# Altium footprint library HT3.96.PcbLib: 56 footprints (part 2 of 4)
Each footprint in its own frame and in the unit in brackets; x right, y up, seen from the top. Pads: shape width x height; smd on the part's side, far side on the other; paste and mask are expansions set on the pad; w line width, h text height; cw(c..) or ccw(c..) is an arc to the next point about the centre after c.
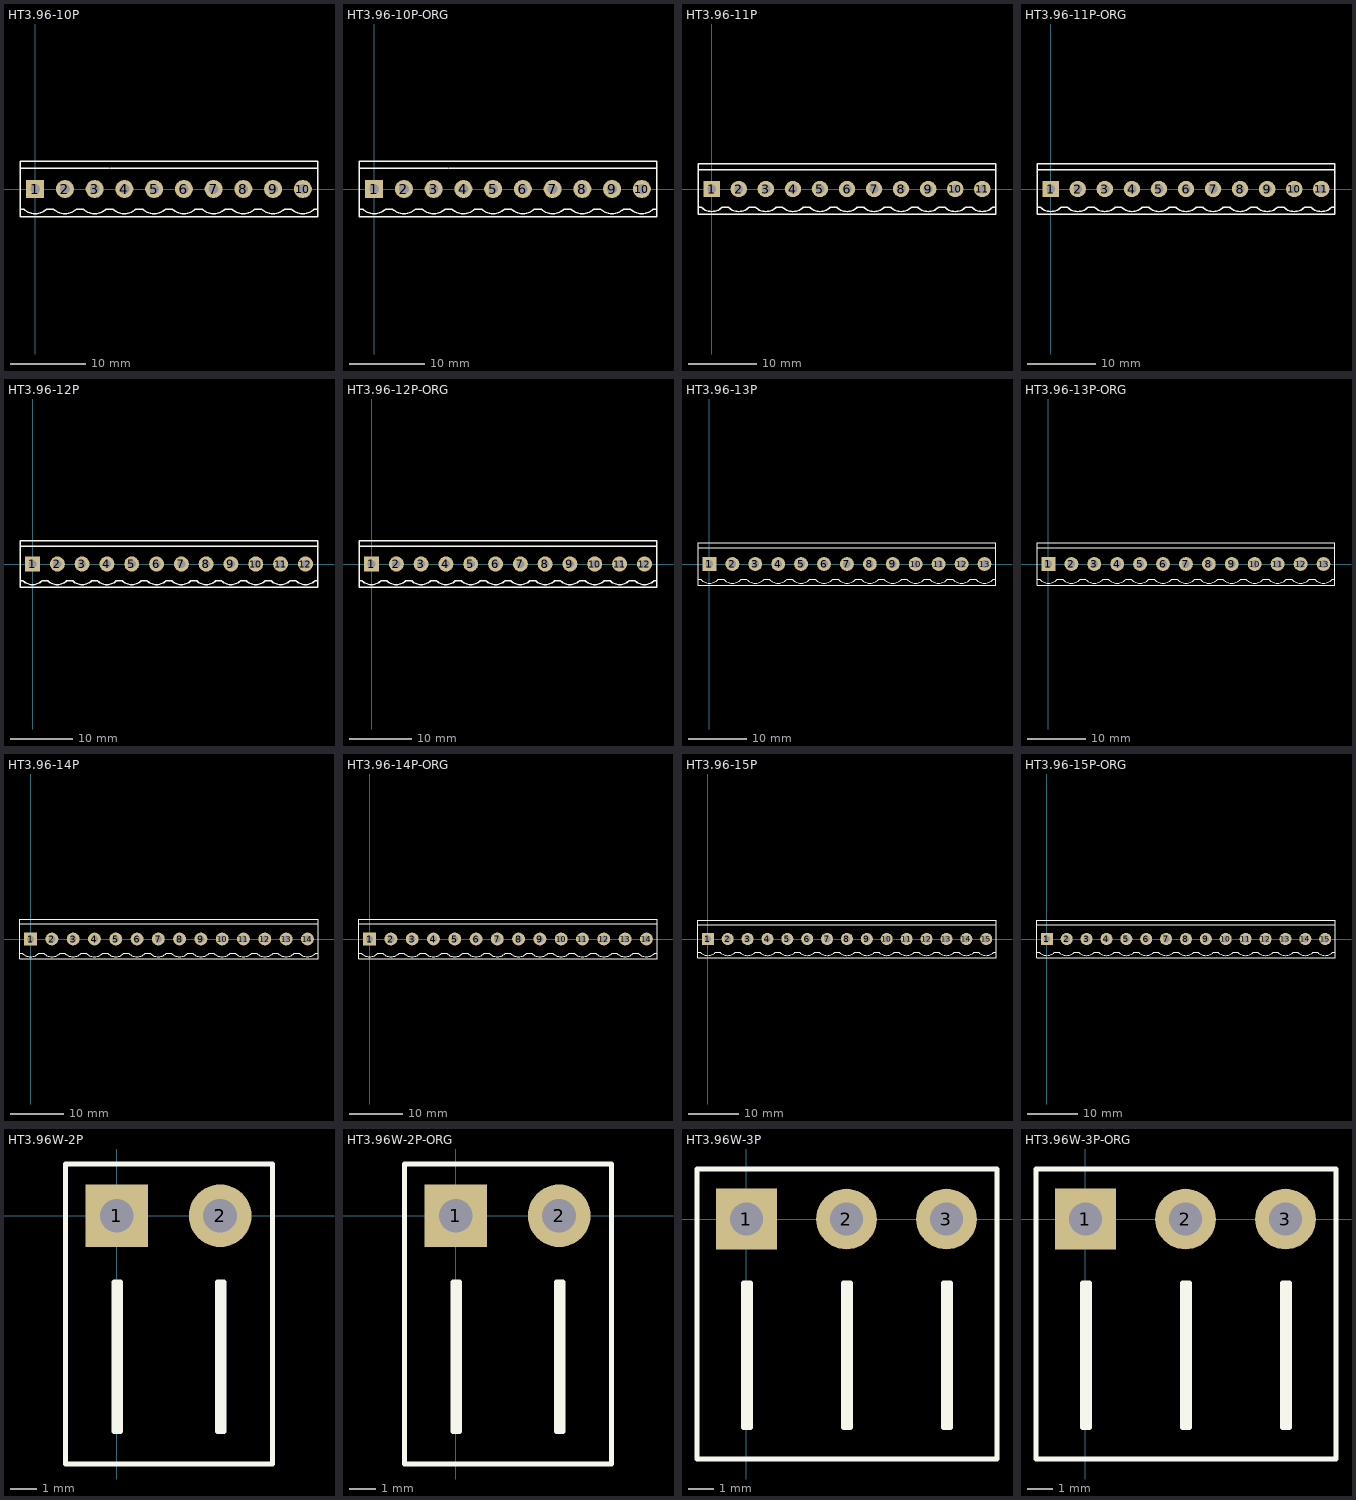
[diagram p1: the footprints below, top view; thin cyan lines are the x and y axes]

## HT3.96-10P [mm]
pads (10):
  rect 2.4x2.4 hole 1.3: 1(0,0)
  round 2.4 hole 1.3: 2(3.96,0) 3(7.92,0) 4(11.88,0) 5(15.84,0) 6(19.8,0) 7(23.76,0) 8(27.72,0) 9(31.68,0) 10(35.64,0)
Top Overlay:
  lines w0.203: -1.98,-2.667 -1.524,-2.667 ccw(c0,-1.143) 1.524,-2.667 1.98,-2.667 2.436,-2.667 ccw(c3.96,-1.143) 5.484,-2.667 5.94,-2.667 6.396,-2.667 ccw(c7.92,-1.143) 9.444,-2.667 9.9,-2.667 10.356,-2.667 ccw(c11.88,-1.143) 13.404,-2.667 13.86,-2.667 14.316,-2.667 ccw(c15.84,-1.143) 17.364,-2.667 17.82,-2.667 18.276,-2.667 ccw(c19.8,-1.143) 21.324,-2.667 21.78,-2.667 22.236,-2.667 ccw(c23.76,-1.143) 25.284,-2.667 25.74,-2.667 26.196,-2.667 ccw(c27.72,-1.143) 29.244,-2.667 29.7,-2.667 30.156,-2.667 ccw(c31.68,-1.143) 33.204,-2.667 33.66,-2.667 34.116,-2.667 ccw(c35.64,-1.143) 37.164,-2.667 37.62,-2.667 ; -1.98,2.794 1.905,2.794 ; 1.98,2.794 5.865,2.794 ; 5.94,2.794 9.825,2.794 ; 9.9,2.794 13.785,2.794 ; 13.86,2.794 17.745,2.794 ; 17.82,2.794 21.705,2.794 ; 21.78,2.794 25.665,2.794 ; 25.74,2.794 29.625,2.794 ; 29.7,2.794 33.585,2.794 ; 33.66,2.794 37.545,2.794 ; -1.98,-3.7 1.98,-3.7 5.94,-3.7 9.9,-3.7 13.86,-3.7 17.82,-3.7 21.78,-3.7 25.74,-3.7 29.7,-3.7 33.66,-3.7 37.62,-3.7 37.62,3.7 33.66,3.7 29.7,3.7 25.74,3.7 21.78,3.7 17.82,3.7 13.86,3.7 9.9,3.7 5.94,3.7 1.98,3.7 -1.98,3.7 -1.98,-3.7
3D body "HT3.96-LI.STEP": height 10.05, standoff -2.95, extent 33.556,-3.7 37.556,3.7
3D body "HT3.96-LI.STEP": height 10.05, standoff -2.95, extent 25.636,-3.7 29.636,3.7
3D body "HT3.96-LI.STEP": height 10.05, standoff -2.95, extent 21.676,-3.7 25.676,3.7
3D body "HT3.96-LI.STEP": height 10.05, standoff -2.95, extent 29.596,-3.7 33.596,3.7
3D body "HT3.96-LI.STEP": height 10.05, standoff -2.95, extent 13.756,-3.7 17.756,3.7
3D body "HT3.96-LI.STEP": height 10.05, standoff -2.95, extent 9.796,-3.7 13.796,3.7
3D body "HT3.96-LI.STEP": height 10.05, standoff -2.95, extent 17.716,-3.7 21.716,3.7
3D body "HT3.96-LI.STEP": height 10.05, standoff -2.95, extent 1.876,-3.7 5.876,3.7
3D body "HT3.96-LI.STEP": height 10.05, standoff -2.95, extent -2.084,-3.7 1.916,3.7
3D body "HT3.96-LI.STEP": height 10.05, standoff -2.95, extent 5.836,-3.7 9.836,3.7

## HT3.96-10P-ORG [mm]
pads (10):
  rect 2.4x2.4 hole 1.3: 1(0,0)
  round 2.4 hole 1.3: 2(3.96,0) 3(7.92,0) 4(11.88,0) 5(15.84,0) 6(19.8,0) 7(23.76,0) 8(27.72,0) 9(31.68,0) 10(35.64,0)
Top Overlay:
  lines w0.203: -1.98,-2.667 -1.524,-2.667 ccw(c0,-1.143) 1.524,-2.667 1.98,-2.667 2.436,-2.667 ccw(c3.96,-1.143) 5.484,-2.667 5.94,-2.667 6.396,-2.667 ccw(c7.92,-1.143) 9.444,-2.667 9.9,-2.667 10.356,-2.667 ccw(c11.88,-1.143) 13.404,-2.667 13.86,-2.667 14.316,-2.667 ccw(c15.84,-1.143) 17.364,-2.667 17.82,-2.667 18.276,-2.667 ccw(c19.8,-1.143) 21.324,-2.667 21.78,-2.667 22.236,-2.667 ccw(c23.76,-1.143) 25.284,-2.667 25.74,-2.667 26.196,-2.667 ccw(c27.72,-1.143) 29.244,-2.667 29.7,-2.667 30.156,-2.667 ccw(c31.68,-1.143) 33.204,-2.667 33.66,-2.667 34.116,-2.667 ccw(c35.64,-1.143) 37.164,-2.667 37.62,-2.667 ; -1.98,2.794 1.905,2.794 ; 1.98,2.794 5.865,2.794 ; 5.94,2.794 9.825,2.794 ; 9.9,2.794 13.785,2.794 ; 13.86,2.794 17.745,2.794 ; 17.82,2.794 21.705,2.794 ; 21.78,2.794 25.665,2.794 ; 25.74,2.794 29.625,2.794 ; 29.7,2.794 33.585,2.794 ; 33.66,2.794 37.545,2.794 ; -1.98,-3.7 1.98,-3.7 5.94,-3.7 9.9,-3.7 13.86,-3.7 17.82,-3.7 21.78,-3.7 25.74,-3.7 29.7,-3.7 33.66,-3.7 37.62,-3.7 37.62,3.7 33.66,3.7 29.7,3.7 25.74,3.7 21.78,3.7 17.82,3.7 13.86,3.7 9.9,3.7 5.94,3.7 1.98,3.7 -1.98,3.7 -1.98,-3.7
3D body "HT3.96-LI-ORG.STEP": height 10.05, standoff -2.95, extent 33.62,-3.7 37.62,3.7
3D body "HT3.96-LI-ORG.STEP": height 10.05, standoff -2.95, extent 25.7,-3.7 29.7,3.7
3D body "HT3.96-LI-ORG.STEP": height 10.05, standoff -2.95, extent 21.74,-3.7 25.74,3.7
3D body "HT3.96-LI-ORG.STEP": height 10.05, standoff -2.95, extent 29.66,-3.7 33.66,3.7
3D body "HT3.96-LI-ORG.STEP": height 10.05, standoff -2.95, extent 13.82,-3.7 17.82,3.7
3D body "HT3.96-LI-ORG.STEP": height 10.05, standoff -2.95, extent 9.86,-3.7 13.86,3.7
3D body "HT3.96-LI-ORG.STEP": height 10.05, standoff -2.95, extent 17.78,-3.7 21.78,3.7
3D body "HT3.96-LI-ORG.STEP": height 10.05, standoff -2.95, extent 1.94,-3.7 5.94,3.7
3D body "HT3.96-LI-ORG.STEP": height 10.05, standoff -2.95, extent -2.02,-3.7 1.98,3.7
3D body "HT3.96-LI-ORG.STEP": height 10.05, standoff -2.95, extent 5.9,-3.7 9.9,3.7

## HT3.96-11P [mm]
pads (11):
  rect 2.4x2.4 hole 1.3: 1(0,0)
  round 2.4 hole 1.3: 2(3.96,0) 3(7.92,0) 4(11.88,0) 5(15.84,0) 6(19.8,0) 7(23.76,0) 8(27.72,0) 9(31.68,0) 10(35.64,0) 11(39.6,0)
Top Overlay:
  lines w0.203: -1.98,-2.667 -1.524,-2.667 ccw(c0,-1.143) 1.524,-2.667 1.98,-2.667 2.436,-2.667 ccw(c3.96,-1.143) 5.484,-2.667 5.94,-2.667 6.396,-2.667 ccw(c7.92,-1.143) 9.444,-2.667 9.9,-2.667 10.356,-2.667 ccw(c11.88,-1.143) 13.404,-2.667 13.86,-2.667 14.316,-2.667 ccw(c15.84,-1.143) 17.364,-2.667 17.82,-2.667 18.276,-2.667 ccw(c19.8,-1.143) 21.324,-2.667 21.78,-2.667 22.236,-2.667 ccw(c23.76,-1.143) 25.284,-2.667 25.74,-2.667 26.196,-2.667 ccw(c27.72,-1.143) 29.244,-2.667 29.7,-2.667 30.156,-2.667 ccw(c31.68,-1.143) 33.204,-2.667 33.66,-2.667 34.116,-2.667 ccw(c35.64,-1.143) 37.164,-2.667 ; -1.98,2.794 1.905,2.794 ; 1.98,2.794 5.865,2.794 ; 5.94,2.794 9.825,2.794 ; 9.9,2.794 13.785,2.794 ; 13.86,2.794 17.745,2.794 ; 17.82,2.794 21.705,2.794 ; 21.78,2.794 25.665,2.794 ; 25.74,2.794 29.625,2.794 ; 29.7,2.794 33.585,2.794 ; 33.66,2.794 37.545,2.794 ; 37.62,2.794 41.505,2.794 ; 41.58,-2.667 41.124,-2.667 cw(c39.6,-1.143) 38.076,-2.667 37.62,-2.667 ; 37.164,-2.667 37.62,-2.667 ; 37.164,-2.667 37.62,-2.667 ; -1.98,-3.7 -1.98,3.7 1.98,3.7 5.94,3.7 9.9,3.7 13.86,3.7 17.82,3.7 21.78,3.7 25.74,3.7 29.7,3.7 33.66,3.7 37.62,3.7 41.58,3.7 41.58,-3.7 37.62,-3.7 33.66,-3.7 29.7,-3.7 25.74,-3.7 21.78,-3.7 17.82,-3.7 13.86,-3.7 9.9,-3.7 5.94,-3.7 1.98,-3.7 -1.98,-3.7
3D body "HT3.96-LI.STEP": height 10.05, standoff -2.95, extent 37.516,-3.7 41.516,3.7
3D body "HT3.96-LI.STEP": height 10.05, standoff -2.95, extent 33.556,-3.7 37.556,3.7
3D body "HT3.96-LI.STEP": height 10.05, standoff -2.95, extent 25.636,-3.7 29.636,3.7
3D body "HT3.96-LI.STEP": height 10.05, standoff -2.95, extent 21.676,-3.7 25.676,3.7
3D body "HT3.96-LI.STEP": height 10.05, standoff -2.95, extent 29.596,-3.7 33.596,3.7
3D body "HT3.96-LI.STEP": height 10.05, standoff -2.95, extent 13.756,-3.7 17.756,3.7
3D body "HT3.96-LI.STEP": height 10.05, standoff -2.95, extent 9.796,-3.7 13.796,3.7
3D body "HT3.96-LI.STEP": height 10.05, standoff -2.95, extent 17.716,-3.7 21.716,3.7
3D body "HT3.96-LI.STEP": height 10.05, standoff -2.95, extent 1.876,-3.7 5.876,3.7
3D body "HT3.96-LI.STEP": height 10.05, standoff -2.95, extent -2.084,-3.7 1.916,3.7
3D body "HT3.96-LI.STEP": height 10.05, standoff -2.95, extent 5.836,-3.7 9.836,3.7

## HT3.96-11P-ORG [mm]
pads (11):
  rect 2.4x2.4 hole 1.3: 1(0,0)
  round 2.4 hole 1.3: 2(3.96,0) 3(7.92,0) 4(11.88,0) 5(15.84,0) 6(19.8,0) 7(23.76,0) 8(27.72,0) 9(31.68,0) 10(35.64,0) 11(39.6,0)
Top Overlay:
  lines w0.203: -1.98,-2.667 -1.524,-2.667 ccw(c0,-1.143) 1.524,-2.667 1.98,-2.667 2.436,-2.667 ccw(c3.96,-1.143) 5.484,-2.667 5.94,-2.667 6.396,-2.667 ccw(c7.92,-1.143) 9.444,-2.667 9.9,-2.667 10.356,-2.667 ccw(c11.88,-1.143) 13.404,-2.667 13.86,-2.667 14.316,-2.667 ccw(c15.84,-1.143) 17.364,-2.667 17.82,-2.667 18.276,-2.667 ccw(c19.8,-1.143) 21.324,-2.667 21.78,-2.667 22.236,-2.667 ccw(c23.76,-1.143) 25.284,-2.667 25.74,-2.667 26.196,-2.667 ccw(c27.72,-1.143) 29.244,-2.667 29.7,-2.667 30.156,-2.667 ccw(c31.68,-1.143) 33.204,-2.667 33.66,-2.667 34.116,-2.667 ccw(c35.64,-1.143) 37.164,-2.667 ; -1.98,2.794 1.905,2.794 ; 1.98,2.794 5.865,2.794 ; 5.94,2.794 9.825,2.794 ; 9.9,2.794 13.785,2.794 ; 13.86,2.794 17.745,2.794 ; 17.82,2.794 21.705,2.794 ; 21.78,2.794 25.665,2.794 ; 25.74,2.794 29.625,2.794 ; 29.7,2.794 33.585,2.794 ; 33.66,2.794 37.545,2.794 ; 37.62,2.794 41.505,2.794 ; 41.58,-2.667 41.124,-2.667 cw(c39.6,-1.143) 38.076,-2.667 37.62,-2.667 ; 37.164,-2.667 37.62,-2.667 ; 37.164,-2.667 37.62,-2.667 ; -1.98,-3.7 -1.98,3.7 1.98,3.7 5.94,3.7 9.9,3.7 13.86,3.7 17.82,3.7 21.78,3.7 25.74,3.7 29.7,3.7 33.66,3.7 37.62,3.7 41.58,3.7 41.58,-3.7 37.62,-3.7 33.66,-3.7 29.7,-3.7 25.74,-3.7 21.78,-3.7 17.82,-3.7 13.86,-3.7 9.9,-3.7 5.94,-3.7 1.98,-3.7 -1.98,-3.7
3D body "HT3.96-LI-ORG.STEP": height 10.05, standoff -2.95, extent 5.9,-3.7 9.9,3.7
3D body "HT3.96-LI-ORG.STEP": height 10.05, standoff -2.95, extent -2.02,-3.7 1.98,3.7
3D body "HT3.96-LI-ORG.STEP": height 10.05, standoff -2.95, extent 1.94,-3.7 5.94,3.7
3D body "HT3.96-LI-ORG.STEP": height 10.05, standoff -2.95, extent 17.78,-3.7 21.78,3.7
3D body "HT3.96-LI-ORG.STEP": height 10.05, standoff -2.95, extent 9.86,-3.7 13.86,3.7
3D body "HT3.96-LI-ORG.STEP": height 10.05, standoff -2.95, extent 13.82,-3.7 17.82,3.7
3D body "HT3.96-LI-ORG.STEP": height 10.05, standoff -2.95, extent 29.66,-3.7 33.66,3.7
3D body "HT3.96-LI-ORG.STEP": height 10.05, standoff -2.95, extent 21.74,-3.7 25.74,3.7
3D body "HT3.96-LI-ORG.STEP": height 10.05, standoff -2.95, extent 25.7,-3.7 29.7,3.7
3D body "HT3.96-LI-ORG.STEP": height 10.05, standoff -2.95, extent 33.62,-3.7 37.62,3.7
3D body "HT3.96-LI-ORG.STEP": height 10.05, standoff -2.95, extent 37.58,-3.7 41.58,3.7

## HT3.96-12P [mm]
pads (12):
  rect 2.4x2.4 hole 1.3: 1(0,0)
  round 2.4 hole 1.3: 2(3.96,0) 3(7.92,0) 4(11.88,0) 5(15.84,0) 6(19.8,0) 7(23.76,0) 8(27.72,0) 9(31.68,0) 10(35.64,0) 11(39.6,0) 12(43.58,0)
Top Overlay:
  lines w0.203: -1.98,-2.667 -1.524,-2.667 ccw(c0,-1.143) 1.524,-2.667 1.98,-2.667 2.436,-2.667 ccw(c3.96,-1.143) 5.484,-2.667 5.94,-2.667 6.396,-2.667 ccw(c7.92,-1.143) 9.444,-2.667 9.9,-2.667 10.356,-2.667 ccw(c11.88,-1.143) 13.404,-2.667 13.86,-2.667 14.316,-2.667 ccw(c15.84,-1.143) 17.364,-2.667 17.82,-2.667 18.276,-2.667 ccw(c19.8,-1.143) 21.324,-2.667 21.78,-2.667 22.236,-2.667 ccw(c23.76,-1.143) 25.284,-2.667 25.74,-2.667 26.196,-2.667 ccw(c27.72,-1.143) 29.244,-2.667 29.7,-2.667 30.156,-2.667 ccw(c31.68,-1.143) 33.204,-2.667 33.66,-2.667 34.116,-2.667 ccw(c35.64,-1.143) 37.164,-2.667 ; -1.98,2.794 1.905,2.794 ; 1.98,2.794 5.865,2.794 ; 5.94,2.794 9.825,2.794 ; 9.9,2.794 13.785,2.794 ; 13.86,2.794 17.745,2.794 ; 17.82,2.794 21.705,2.794 ; 21.78,2.794 25.665,2.794 ; 25.74,2.794 29.625,2.794 ; 29.7,2.794 33.585,2.794 ; 33.66,2.794 37.545,2.794 ; 37.62,2.794 41.505,2.794 ; 41.58,-3.7 37.62,-3.7 33.66,-3.7 29.7,-3.7 25.74,-3.7 21.78,-3.7 17.82,-3.7 13.86,-3.7 9.9,-3.7 5.94,-3.7 1.98,-3.7 -1.98,-3.7 -1.98,3.7 1.98,3.7 5.94,3.7 9.9,3.7 13.86,3.7 17.82,3.7 21.78,3.7 25.74,3.7 29.7,3.7 33.66,3.7 37.62,3.7 41.58,3.7 ; 41.58,-2.667 41.124,-2.667 cw(c39.6,-1.143) 38.076,-2.667 37.62,-2.667 ; 41.6,-3.7 45.56,-3.7 45.56,3.7 41.6,3.7 ; 41.6,2.794 45.485,2.794 ; 37.164,-2.667 37.62,-2.667 ; 37.164,-2.667 37.62,-2.667 ; 41.6,-2.667 41.144,-2.667 41.6,-2.667 ; 41.6,-2.667 42.056,-2.667 ccw(c43.58,-1.143) 45.104,-2.667 ; 45.104,-2.667 45.56,-2.667 ; 45.104,-2.667 45.56,-2.667 ; 45.104,-2.667 45.56,-2.667
3D body "HT3.96-LI.STEP": height 10.05, standoff -2.95, extent 37.516,-3.7 41.516,3.7
3D body "HT3.96-LI.STEP": height 10.05, standoff -2.95, extent 33.556,-3.7 37.556,3.7
3D body "HT3.96-LI.STEP": height 10.05, standoff -2.95, extent 41.476,-3.7 45.476,3.7
3D body "HT3.96-LI.STEP": height 10.05, standoff -2.95, extent 25.636,-3.7 29.636,3.7
3D body "HT3.96-LI.STEP": height 10.05, standoff -2.95, extent 21.676,-3.7 25.676,3.7
3D body "HT3.96-LI.STEP": height 10.05, standoff -2.95, extent 29.596,-3.7 33.596,3.7
3D body "HT3.96-LI.STEP": height 10.05, standoff -2.95, extent 13.756,-3.7 17.756,3.7
3D body "HT3.96-LI.STEP": height 10.05, standoff -2.95, extent 9.796,-3.7 13.796,3.7
3D body "HT3.96-LI.STEP": height 10.05, standoff -2.95, extent 17.716,-3.7 21.716,3.7
3D body "HT3.96-LI.STEP": height 10.05, standoff -2.95, extent 1.876,-3.7 5.876,3.7
3D body "HT3.96-LI.STEP": height 10.05, standoff -2.95, extent -2.084,-3.7 1.916,3.7
3D body "HT3.96-LI.STEP": height 10.05, standoff -2.95, extent 5.836,-3.7 9.836,3.7

## HT3.96-12P-ORG [mm]
pads (12):
  rect 2.4x2.4 hole 1.3: 1(0,0)
  round 2.4 hole 1.3: 2(3.96,0) 3(7.92,0) 4(11.88,0) 5(15.84,0) 6(19.8,0) 7(23.76,0) 8(27.72,0) 9(31.68,0) 10(35.64,0) 11(39.6,0) 12(43.58,0)
Top Overlay:
  lines w0.203: -1.98,-2.667 -1.524,-2.667 ccw(c0,-1.143) 1.524,-2.667 1.98,-2.667 2.436,-2.667 ccw(c3.96,-1.143) 5.484,-2.667 5.94,-2.667 6.396,-2.667 ccw(c7.92,-1.143) 9.444,-2.667 9.9,-2.667 10.356,-2.667 ccw(c11.88,-1.143) 13.404,-2.667 13.86,-2.667 14.316,-2.667 ccw(c15.84,-1.143) 17.364,-2.667 17.82,-2.667 18.276,-2.667 ccw(c19.8,-1.143) 21.324,-2.667 21.78,-2.667 22.236,-2.667 ccw(c23.76,-1.143) 25.284,-2.667 25.74,-2.667 26.196,-2.667 ccw(c27.72,-1.143) 29.244,-2.667 29.7,-2.667 30.156,-2.667 ccw(c31.68,-1.143) 33.204,-2.667 33.66,-2.667 34.116,-2.667 ccw(c35.64,-1.143) 37.164,-2.667 ; -1.98,2.794 1.905,2.794 ; 1.98,2.794 5.865,2.794 ; 5.94,2.794 9.825,2.794 ; 9.9,2.794 13.785,2.794 ; 13.86,2.794 17.745,2.794 ; 17.82,2.794 21.705,2.794 ; 21.78,2.794 25.665,2.794 ; 25.74,2.794 29.625,2.794 ; 29.7,2.794 33.585,2.794 ; 33.66,2.794 37.545,2.794 ; 37.62,2.794 41.505,2.794 ; 41.58,-3.7 37.62,-3.7 33.66,-3.7 29.7,-3.7 25.74,-3.7 21.78,-3.7 17.82,-3.7 13.86,-3.7 9.9,-3.7 5.94,-3.7 1.98,-3.7 -1.98,-3.7 -1.98,3.7 1.98,3.7 5.94,3.7 9.9,3.7 13.86,3.7 17.82,3.7 21.78,3.7 25.74,3.7 29.7,3.7 33.66,3.7 37.62,3.7 41.58,3.7 ; 41.58,-2.667 41.124,-2.667 cw(c39.6,-1.143) 38.076,-2.667 37.62,-2.667 ; 41.6,-3.7 45.56,-3.7 45.56,3.7 41.6,3.7 ; 41.6,2.794 45.485,2.794 ; 37.164,-2.667 37.62,-2.667 ; 37.164,-2.667 37.62,-2.667 ; 41.6,-2.667 41.144,-2.667 41.6,-2.667 ; 41.6,-2.667 42.056,-2.667 ccw(c43.58,-1.143) 45.104,-2.667 ; 45.104,-2.667 45.56,-2.667 ; 45.104,-2.667 45.56,-2.667 ; 45.104,-2.667 45.56,-2.667
3D body "HT3.96-LI-ORG.STEP": height 10.05, standoff -2.95, extent 5.9,-3.7 9.9,3.7
3D body "HT3.96-LI-ORG.STEP": height 10.05, standoff -2.95, extent -2.02,-3.7 1.98,3.7
3D body "HT3.96-LI-ORG.STEP": height 10.05, standoff -2.95, extent 1.94,-3.7 5.94,3.7
3D body "HT3.96-LI-ORG.STEP": height 10.05, standoff -2.95, extent 17.78,-3.7 21.78,3.7
3D body "HT3.96-LI-ORG.STEP": height 10.05, standoff -2.95, extent 9.86,-3.7 13.86,3.7
3D body "HT3.96-LI-ORG.STEP": height 10.05, standoff -2.95, extent 13.82,-3.7 17.82,3.7
3D body "HT3.96-LI-ORG.STEP": height 10.05, standoff -2.95, extent 29.66,-3.7 33.66,3.7
3D body "HT3.96-LI-ORG.STEP": height 10.05, standoff -2.95, extent 21.74,-3.7 25.74,3.7
3D body "HT3.96-LI-ORG.STEP": height 10.05, standoff -2.95, extent 25.7,-3.7 29.7,3.7
3D body "HT3.96-LI-ORG.STEP": height 10.05, standoff -2.95, extent 41.54,-3.7 45.54,3.7
3D body "HT3.96-LI-ORG.STEP": height 10.05, standoff -2.95, extent 33.62,-3.7 37.62,3.7
3D body "HT3.96-LI-ORG.STEP": height 10.05, standoff -2.95, extent 37.58,-3.7 41.58,3.7

## HT3.96-13P [mm]
pads (13):
  rect 2.4x2.4 hole 1.3: 1(0,0)
  round 2.4 hole 1.3: 2(3.96,0) 3(7.92,0) 4(11.88,0) 5(15.84,0) 6(19.8,0) 7(23.76,0) 8(27.72,0) 9(31.68,0) 10(35.64,0) 11(39.6,0) 12(43.58,0) 13(47.54,0)
Top Overlay:
  lines w0.203: -1.98,-2.667 -1.524,-2.667 ccw(c0,-1.143) 1.524,-2.667 1.98,-2.667 2.436,-2.667 ccw(c3.96,-1.143) 5.484,-2.667 5.94,-2.667 6.396,-2.667 ccw(c7.92,-1.143) 9.444,-2.667 9.9,-2.667 10.356,-2.667 ccw(c11.88,-1.143) 13.404,-2.667 13.86,-2.667 14.316,-2.667 ccw(c15.84,-1.143) 17.364,-2.667 17.82,-2.667 18.276,-2.667 ccw(c19.8,-1.143) 21.324,-2.667 21.78,-2.667 22.236,-2.667 ccw(c23.76,-1.143) 25.284,-2.667 25.74,-2.667 26.196,-2.667 ccw(c27.72,-1.143) 29.244,-2.667 29.7,-2.667 30.156,-2.667 ccw(c31.68,-1.143) 33.204,-2.667 33.66,-2.667 34.116,-2.667 ccw(c35.64,-1.143) 37.164,-2.667 ; -1.98,2.794 1.905,2.794 ; 1.98,2.794 5.865,2.794 ; 5.94,2.794 9.825,2.794 ; 9.9,2.794 13.785,2.794 ; 13.86,2.794 17.745,2.794 ; 17.82,2.794 21.705,2.794 ; 21.78,2.794 25.665,2.794 ; 25.74,2.794 29.625,2.794 ; 29.7,2.794 33.585,2.794 ; 33.66,2.794 37.545,2.794 ; 37.62,2.794 41.505,2.794 ; 41.58,-3.7 37.62,-3.7 33.66,-3.7 29.7,-3.7 25.74,-3.7 21.78,-3.7 17.82,-3.7 13.86,-3.7 9.9,-3.7 5.94,-3.7 1.98,-3.7 -1.98,-3.7 -1.98,3.7 1.98,3.7 5.94,3.7 9.9,3.7 13.86,3.7 17.82,3.7 21.78,3.7 25.74,3.7 29.7,3.7 33.66,3.7 37.62,3.7 41.58,3.7 ; 41.58,-2.667 41.124,-2.667 cw(c39.6,-1.143) 38.076,-2.667 37.62,-2.667 ; 41.6,-3.7 45.56,-3.7 49.52,-3.7 49.52,3.7 45.56,3.7 41.6,3.7 ; 41.6,2.794 45.485,2.794 ; 45.56,2.794 49.445,2.794 ; 37.164,-2.667 37.62,-2.667 ; 37.164,-2.667 37.62,-2.667 ; 41.6,-2.667 41.144,-2.667 41.6,-2.667 ; 41.6,-2.667 42.056,-2.667 ccw(c43.58,-1.143) 45.104,-2.667 ; 45.104,-2.667 45.56,-2.667 ; 45.104,-2.667 45.56,-2.667 ; 45.104,-2.667 45.56,-2.667 ; 45.56,-2.667 46.016,-2.667 ccw(c47.54,-1.143) 49.064,-2.667 ; 49.064,-2.667 49.52,-2.667 ; 49.064,-2.667 49.52,-2.667 ; 49.064,-2.667 49.52,-2.667
3D body "HT3.96-LI.STEP": height 10.05, standoff -2.95, extent 45.456,-3.7 49.456,3.7
3D body "HT3.96-LI.STEP": height 10.05, standoff -2.95, extent 37.516,-3.7 41.516,3.7
3D body "HT3.96-LI.STEP": height 10.05, standoff -2.95, extent 33.556,-3.7 37.556,3.7
3D body "HT3.96-LI.STEP": height 10.05, standoff -2.95, extent 41.476,-3.7 45.476,3.7
3D body "HT3.96-LI.STEP": height 10.05, standoff -2.95, extent 25.636,-3.7 29.636,3.7
3D body "HT3.96-LI.STEP": height 10.05, standoff -2.95, extent 21.676,-3.7 25.676,3.7
3D body "HT3.96-LI.STEP": height 10.05, standoff -2.95, extent 29.596,-3.7 33.596,3.7
3D body "HT3.96-LI.STEP": height 10.05, standoff -2.95, extent 13.756,-3.7 17.756,3.7
3D body "HT3.96-LI.STEP": height 10.05, standoff -2.95, extent 9.796,-3.7 13.796,3.7
3D body "HT3.96-LI.STEP": height 10.05, standoff -2.95, extent 17.716,-3.7 21.716,3.7
3D body "HT3.96-LI.STEP": height 10.05, standoff -2.95, extent 1.876,-3.7 5.876,3.7
3D body "HT3.96-LI.STEP": height 10.05, standoff -2.95, extent -2.084,-3.7 1.916,3.7
3D body "HT3.96-LI.STEP": height 10.05, standoff -2.95, extent 5.836,-3.7 9.836,3.7

## HT3.96-13P-ORG [mm]
pads (13):
  rect 2.4x2.4 hole 1.3: 1(0,0)
  round 2.4 hole 1.3: 2(3.96,0) 3(7.92,0) 4(11.88,0) 5(15.84,0) 6(19.8,0) 7(23.76,0) 8(27.72,0) 9(31.68,0) 10(35.64,0) 11(39.6,0) 12(43.58,0) 13(47.54,0)
Top Overlay:
  lines w0.203: -1.98,-2.667 -1.524,-2.667 ccw(c0,-1.143) 1.524,-2.667 1.98,-2.667 2.436,-2.667 ccw(c3.96,-1.143) 5.484,-2.667 5.94,-2.667 6.396,-2.667 ccw(c7.92,-1.143) 9.444,-2.667 9.9,-2.667 10.356,-2.667 ccw(c11.88,-1.143) 13.404,-2.667 13.86,-2.667 14.316,-2.667 ccw(c15.84,-1.143) 17.364,-2.667 17.82,-2.667 18.276,-2.667 ccw(c19.8,-1.143) 21.324,-2.667 21.78,-2.667 22.236,-2.667 ccw(c23.76,-1.143) 25.284,-2.667 25.74,-2.667 26.196,-2.667 ccw(c27.72,-1.143) 29.244,-2.667 29.7,-2.667 30.156,-2.667 ccw(c31.68,-1.143) 33.204,-2.667 33.66,-2.667 34.116,-2.667 ccw(c35.64,-1.143) 37.164,-2.667 ; -1.98,2.794 1.905,2.794 ; 1.98,2.794 5.865,2.794 ; 5.94,2.794 9.825,2.794 ; 9.9,2.794 13.785,2.794 ; 13.86,2.794 17.745,2.794 ; 17.82,2.794 21.705,2.794 ; 21.78,2.794 25.665,2.794 ; 25.74,2.794 29.625,2.794 ; 29.7,2.794 33.585,2.794 ; 33.66,2.794 37.545,2.794 ; 37.62,2.794 41.505,2.794 ; 41.58,-3.7 37.62,-3.7 33.66,-3.7 29.7,-3.7 25.74,-3.7 21.78,-3.7 17.82,-3.7 13.86,-3.7 9.9,-3.7 5.94,-3.7 1.98,-3.7 -1.98,-3.7 -1.98,3.7 1.98,3.7 5.94,3.7 9.9,3.7 13.86,3.7 17.82,3.7 21.78,3.7 25.74,3.7 29.7,3.7 33.66,3.7 37.62,3.7 41.58,3.7 ; 41.58,-2.667 41.124,-2.667 cw(c39.6,-1.143) 38.076,-2.667 37.62,-2.667 ; 41.6,-3.7 45.56,-3.7 49.52,-3.7 49.52,3.7 45.56,3.7 41.6,3.7 ; 41.6,2.794 45.485,2.794 ; 45.56,2.794 49.445,2.794 ; 37.164,-2.667 37.62,-2.667 ; 37.164,-2.667 37.62,-2.667 ; 41.6,-2.667 41.144,-2.667 41.6,-2.667 ; 41.6,-2.667 42.056,-2.667 ccw(c43.58,-1.143) 45.104,-2.667 ; 45.104,-2.667 45.56,-2.667 ; 45.104,-2.667 45.56,-2.667 ; 45.104,-2.667 45.56,-2.667 ; 45.56,-2.667 46.016,-2.667 ccw(c47.54,-1.143) 49.064,-2.667 ; 49.064,-2.667 49.52,-2.667 ; 49.064,-2.667 49.52,-2.667 ; 49.064,-2.667 49.52,-2.667
3D body "HT3.96-LI-ORG.STEP": height 10.05, standoff -2.95, extent 5.9,-3.7 9.9,3.7
3D body "HT3.96-LI-ORG.STEP": height 10.05, standoff -2.95, extent -2.02,-3.7 1.98,3.7
3D body "HT3.96-LI-ORG.STEP": height 10.05, standoff -2.95, extent 1.94,-3.7 5.94,3.7
3D body "HT3.96-LI-ORG.STEP": height 10.05, standoff -2.95, extent 17.78,-3.7 21.78,3.7
3D body "HT3.96-LI-ORG.STEP": height 10.05, standoff -2.95, extent 9.86,-3.7 13.86,3.7
3D body "HT3.96-LI-ORG.STEP": height 10.05, standoff -2.95, extent 13.82,-3.7 17.82,3.7
3D body "HT3.96-LI-ORG.STEP": height 10.05, standoff -2.95, extent 29.66,-3.7 33.66,3.7
3D body "HT3.96-LI-ORG.STEP": height 10.05, standoff -2.95, extent 21.74,-3.7 25.74,3.7
3D body "HT3.96-LI-ORG.STEP": height 10.05, standoff -2.95, extent 25.7,-3.7 29.7,3.7
3D body "HT3.96-LI-ORG.STEP": height 10.05, standoff -2.95, extent 41.54,-3.7 45.54,3.7
3D body "HT3.96-LI-ORG.STEP": height 10.05, standoff -2.95, extent 33.62,-3.7 37.62,3.7
3D body "HT3.96-LI-ORG.STEP": height 10.05, standoff -2.95, extent 37.58,-3.7 41.58,3.7
3D body "HT3.96-LI-ORG.STEP": height 10.05, standoff -2.95, extent 45.52,-3.7 49.52,3.7

## HT3.96-14P [mm]
pads (14):
  rect 2.4x2.4 hole 1.3: 1(0,0)
  round 2.4 hole 1.3: 2(3.96,0) 3(7.92,0) 4(11.88,0) 5(15.84,0) 6(19.8,0) 7(23.76,0) 8(27.72,0) 9(31.68,0) 10(35.64,0) 11(39.6,0) 12(43.58,0) 13(47.54,0) 14(51.5,0)
Top Overlay:
  lines w0.203: -1.98,-2.667 -1.524,-2.667 ccw(c0,-1.143) 1.524,-2.667 1.98,-2.667 2.436,-2.667 ccw(c3.96,-1.143) 5.484,-2.667 5.94,-2.667 6.396,-2.667 ccw(c7.92,-1.143) 9.444,-2.667 9.9,-2.667 10.356,-2.667 ccw(c11.88,-1.143) 13.404,-2.667 13.86,-2.667 14.316,-2.667 ccw(c15.84,-1.143) 17.364,-2.667 17.82,-2.667 18.276,-2.667 ccw(c19.8,-1.143) 21.324,-2.667 21.78,-2.667 22.236,-2.667 ccw(c23.76,-1.143) 25.284,-2.667 25.74,-2.667 26.196,-2.667 ccw(c27.72,-1.143) 29.244,-2.667 29.7,-2.667 30.156,-2.667 ccw(c31.68,-1.143) 33.204,-2.667 33.66,-2.667 34.116,-2.667 ccw(c35.64,-1.143) 37.164,-2.667 ; -1.98,2.794 1.905,2.794 ; 1.98,2.794 5.865,2.794 ; 5.94,2.794 9.825,2.794 ; 9.9,2.794 13.785,2.794 ; 13.86,2.794 17.745,2.794 ; 17.82,2.794 21.705,2.794 ; 21.78,2.794 25.665,2.794 ; 25.74,2.794 29.625,2.794 ; 29.7,2.794 33.585,2.794 ; 33.66,2.794 37.545,2.794 ; 37.62,2.794 41.505,2.794 ; 41.58,-3.7 37.62,-3.7 33.66,-3.7 29.7,-3.7 25.74,-3.7 21.78,-3.7 17.82,-3.7 13.86,-3.7 9.9,-3.7 5.94,-3.7 1.98,-3.7 -1.98,-3.7 -1.98,3.7 1.98,3.7 5.94,3.7 9.9,3.7 13.86,3.7 17.82,3.7 21.78,3.7 25.74,3.7 29.7,3.7 33.66,3.7 37.62,3.7 41.58,3.7 ; 41.58,-2.667 41.124,-2.667 cw(c39.6,-1.143) 38.076,-2.667 37.62,-2.667 ; 41.6,-3.7 45.56,-3.7 49.52,-3.7 53.48,-3.7 53.48,3.7 49.52,3.7 45.56,3.7 41.6,3.7 ; 41.6,2.794 45.485,2.794 ; 45.56,2.794 49.445,2.794 ; 49.52,2.794 53.405,2.794 ; 37.164,-2.667 37.62,-2.667 ; 37.164,-2.667 37.62,-2.667 ; 41.6,-2.667 41.144,-2.667 41.6,-2.667 ; 41.6,-2.667 42.056,-2.667 ccw(c43.58,-1.143) 45.104,-2.667 ; 45.104,-2.667 45.56,-2.667 ; 45.104,-2.667 45.56,-2.667 ; 45.104,-2.667 45.56,-2.667 ; 45.56,-2.667 46.016,-2.667 ccw(c47.54,-1.143) 49.064,-2.667 ; 49.064,-2.667 49.52,-2.667 ; 49.064,-2.667 49.52,-2.667 ; 49.064,-2.667 49.52,-2.667 ; 49.52,-2.667 49.976,-2.667 ccw(c51.5,-1.143) 53.024,-2.667 ; 53.024,-2.667 53.48,-2.667 ; 53.024,-2.667 53.48,-2.667 ; 53.024,-2.667 53.48,-2.667
3D body "HT3.96-LI.STEP": height 10.05, standoff -2.95, extent 5.836,-3.7 9.836,3.7
3D body "HT3.96-LI.STEP": height 10.05, standoff -2.95, extent -2.084,-3.7 1.916,3.7
3D body "HT3.96-LI.STEP": height 10.05, standoff -2.95, extent 1.876,-3.7 5.876,3.7
3D body "HT3.96-LI.STEP": height 10.05, standoff -2.95, extent 17.716,-3.7 21.716,3.7
3D body "HT3.96-LI.STEP": height 10.05, standoff -2.95, extent 9.796,-3.7 13.796,3.7
3D body "HT3.96-LI.STEP": height 10.05, standoff -2.95, extent 13.756,-3.7 17.756,3.7
3D body "HT3.96-LI.STEP": height 10.05, standoff -2.95, extent 29.596,-3.7 33.596,3.7
3D body "HT3.96-LI.STEP": height 10.05, standoff -2.95, extent 21.676,-3.7 25.676,3.7
3D body "HT3.96-LI.STEP": height 10.05, standoff -2.95, extent 25.636,-3.7 29.636,3.7
3D body "HT3.96-LI.STEP": height 10.05, standoff -2.95, extent 41.476,-3.7 45.476,3.7
3D body "HT3.96-LI.STEP": height 10.05, standoff -2.95, extent 33.556,-3.7 37.556,3.7
3D body "HT3.96-LI.STEP": height 10.05, standoff -2.95, extent 37.516,-3.7 41.516,3.7
3D body "HT3.96-LI.STEP": height 10.05, standoff -2.95, extent 45.456,-3.7 49.456,3.7
3D body "HT3.96-LI.STEP": height 10.05, standoff -2.95, extent 49.416,-3.7 53.416,3.7

## HT3.96-14P-ORG [mm]
pads (14):
  rect 2.4x2.4 hole 1.3: 1(0,0)
  round 2.4 hole 1.3: 2(3.96,0) 3(7.92,0) 4(11.88,0) 5(15.84,0) 6(19.8,0) 7(23.76,0) 8(27.72,0) 9(31.68,0) 10(35.64,0) 11(39.6,0) 12(43.58,0) 13(47.54,0) 14(51.5,0)
Top Overlay:
  lines w0.203: -1.98,-2.667 -1.524,-2.667 ccw(c0,-1.143) 1.524,-2.667 1.98,-2.667 2.436,-2.667 ccw(c3.96,-1.143) 5.484,-2.667 5.94,-2.667 6.396,-2.667 ccw(c7.92,-1.143) 9.444,-2.667 9.9,-2.667 10.356,-2.667 ccw(c11.88,-1.143) 13.404,-2.667 13.86,-2.667 14.316,-2.667 ccw(c15.84,-1.143) 17.364,-2.667 17.82,-2.667 18.276,-2.667 ccw(c19.8,-1.143) 21.324,-2.667 21.78,-2.667 22.236,-2.667 ccw(c23.76,-1.143) 25.284,-2.667 25.74,-2.667 26.196,-2.667 ccw(c27.72,-1.143) 29.244,-2.667 29.7,-2.667 30.156,-2.667 ccw(c31.68,-1.143) 33.204,-2.667 33.66,-2.667 34.116,-2.667 ccw(c35.64,-1.143) 37.164,-2.667 ; -1.98,2.794 1.905,2.794 ; 1.98,2.794 5.865,2.794 ; 5.94,2.794 9.825,2.794 ; 9.9,2.794 13.785,2.794 ; 13.86,2.794 17.745,2.794 ; 17.82,2.794 21.705,2.794 ; 21.78,2.794 25.665,2.794 ; 25.74,2.794 29.625,2.794 ; 29.7,2.794 33.585,2.794 ; 33.66,2.794 37.545,2.794 ; 37.62,2.794 41.505,2.794 ; 41.58,-3.7 37.62,-3.7 33.66,-3.7 29.7,-3.7 25.74,-3.7 21.78,-3.7 17.82,-3.7 13.86,-3.7 9.9,-3.7 5.94,-3.7 1.98,-3.7 -1.98,-3.7 -1.98,3.7 1.98,3.7 5.94,3.7 9.9,3.7 13.86,3.7 17.82,3.7 21.78,3.7 25.74,3.7 29.7,3.7 33.66,3.7 37.62,3.7 41.58,3.7 ; 41.58,-2.667 41.124,-2.667 cw(c39.6,-1.143) 38.076,-2.667 37.62,-2.667 ; 41.6,-3.7 45.56,-3.7 49.52,-3.7 53.48,-3.7 53.48,3.7 49.52,3.7 45.56,3.7 41.6,3.7 ; 41.6,2.794 45.485,2.794 ; 45.56,2.794 49.445,2.794 ; 49.52,2.794 53.405,2.794 ; 37.164,-2.667 37.62,-2.667 ; 37.164,-2.667 37.62,-2.667 ; 41.6,-2.667 41.144,-2.667 41.6,-2.667 ; 41.6,-2.667 42.056,-2.667 ccw(c43.58,-1.143) 45.104,-2.667 ; 45.104,-2.667 45.56,-2.667 ; 45.104,-2.667 45.56,-2.667 ; 45.104,-2.667 45.56,-2.667 ; 45.56,-2.667 46.016,-2.667 ccw(c47.54,-1.143) 49.064,-2.667 ; 49.064,-2.667 49.52,-2.667 ; 49.064,-2.667 49.52,-2.667 ; 49.064,-2.667 49.52,-2.667 ; 49.52,-2.667 49.976,-2.667 ccw(c51.5,-1.143) 53.024,-2.667 ; 53.024,-2.667 53.48,-2.667 ; 53.024,-2.667 53.48,-2.667 ; 53.024,-2.667 53.48,-2.667
3D body "HT3.96-LI-ORG.STEP": height 10.05, standoff -2.95, extent 49.48,-3.7 53.48,3.7
3D body "HT3.96-LI-ORG.STEP": height 10.05, standoff -2.95, extent 45.52,-3.7 49.52,3.7
3D body "HT3.96-LI-ORG.STEP": height 10.05, standoff -2.95, extent 37.58,-3.7 41.58,3.7
3D body "HT3.96-LI-ORG.STEP": height 10.05, standoff -2.95, extent 33.62,-3.7 37.62,3.7
3D body "HT3.96-LI-ORG.STEP": height 10.05, standoff -2.95, extent 41.54,-3.7 45.54,3.7
3D body "HT3.96-LI-ORG.STEP": height 10.05, standoff -2.95, extent 25.7,-3.7 29.7,3.7
3D body "HT3.96-LI-ORG.STEP": height 10.05, standoff -2.95, extent 21.74,-3.7 25.74,3.7
3D body "HT3.96-LI-ORG.STEP": height 10.05, standoff -2.95, extent 29.66,-3.7 33.66,3.7
3D body "HT3.96-LI-ORG.STEP": height 10.05, standoff -2.95, extent 13.82,-3.7 17.82,3.7
3D body "HT3.96-LI-ORG.STEP": height 10.05, standoff -2.95, extent 9.86,-3.7 13.86,3.7
3D body "HT3.96-LI-ORG.STEP": height 10.05, standoff -2.95, extent 17.78,-3.7 21.78,3.7
3D body "HT3.96-LI-ORG.STEP": height 10.05, standoff -2.95, extent 1.94,-3.7 5.94,3.7
3D body "HT3.96-LI-ORG.STEP": height 10.05, standoff -2.95, extent -2.02,-3.7 1.98,3.7
3D body "HT3.96-LI-ORG.STEP": height 10.05, standoff -2.95, extent 5.9,-3.7 9.9,3.7

## HT3.96-15P [mm]
pads (15):
  rect 2.4x2.4 hole 1.3: 1(0,0)
  round 2.4 hole 1.3: 2(3.96,0) 3(7.92,0) 4(11.88,0) 5(15.84,0) 6(19.8,0) 7(23.76,0) 8(27.72,0) 9(31.68,0) 10(35.64,0) 11(39.6,0) 12(43.58,0) 13(47.54,0) 14(51.5,0) 15(55.46,0)
Top Overlay:
  lines w0.203: -1.98,-2.667 -1.524,-2.667 ccw(c0,-1.143) 1.524,-2.667 1.98,-2.667 2.436,-2.667 ccw(c3.96,-1.143) 5.484,-2.667 5.94,-2.667 6.396,-2.667 ccw(c7.92,-1.143) 9.444,-2.667 9.9,-2.667 10.356,-2.667 ccw(c11.88,-1.143) 13.404,-2.667 13.86,-2.667 14.316,-2.667 ccw(c15.84,-1.143) 17.364,-2.667 17.82,-2.667 18.276,-2.667 ccw(c19.8,-1.143) 21.324,-2.667 21.78,-2.667 22.236,-2.667 ccw(c23.76,-1.143) 25.284,-2.667 25.74,-2.667 26.196,-2.667 ccw(c27.72,-1.143) 29.244,-2.667 29.7,-2.667 30.156,-2.667 ccw(c31.68,-1.143) 33.204,-2.667 33.66,-2.667 34.116,-2.667 ccw(c35.64,-1.143) 37.164,-2.667 ; -1.98,2.794 1.905,2.794 ; 1.98,2.794 5.865,2.794 ; 5.94,2.794 9.825,2.794 ; 9.9,2.794 13.785,2.794 ; 13.86,2.794 17.745,2.794 ; 17.82,2.794 21.705,2.794 ; 21.78,2.794 25.665,2.794 ; 25.74,2.794 29.625,2.794 ; 29.7,2.794 33.585,2.794 ; 33.66,2.794 37.545,2.794 ; 37.62,2.794 41.505,2.794 ; 41.58,-3.7 37.62,-3.7 33.66,-3.7 29.7,-3.7 25.74,-3.7 21.78,-3.7 17.82,-3.7 13.86,-3.7 9.9,-3.7 5.94,-3.7 1.98,-3.7 -1.98,-3.7 -1.98,3.7 1.98,3.7 5.94,3.7 9.9,3.7 13.86,3.7 17.82,3.7 21.78,3.7 25.74,3.7 29.7,3.7 33.66,3.7 37.62,3.7 41.58,3.7 ; 41.58,-2.667 41.124,-2.667 cw(c39.6,-1.143) 38.076,-2.667 37.62,-2.667 ; 41.6,-3.7 45.56,-3.7 49.52,-3.7 53.48,-3.7 57.44,-3.7 57.44,3.7 53.48,3.7 49.52,3.7 45.56,3.7 41.6,3.7 ; 41.6,2.794 45.485,2.794 ; 45.56,2.794 49.445,2.794 ; 49.52,2.794 53.405,2.794 ; 53.48,2.794 57.365,2.794 ; 57.44,-2.667 56.984,-2.667 cw(c55.46,-1.143) 53.936,-2.667 53.48,-2.667 ; 37.164,-2.667 37.62,-2.667 ; 37.164,-2.667 37.62,-2.667 ; 41.6,-2.667 41.144,-2.667 41.6,-2.667 ; 41.6,-2.667 42.056,-2.667 ccw(c43.58,-1.143) 45.104,-2.667 ; 45.104,-2.667 45.56,-2.667 ; 45.104,-2.667 45.56,-2.667 ; 45.104,-2.667 45.56,-2.667 ; 45.56,-2.667 46.016,-2.667 ccw(c47.54,-1.143) 49.064,-2.667 ; 49.064,-2.667 49.52,-2.667 ; 49.064,-2.667 49.52,-2.667 ; 49.064,-2.667 49.52,-2.667 ; 49.52,-2.667 49.976,-2.667 ccw(c51.5,-1.143) 53.024,-2.667 ; 53.024,-2.667 53.48,-2.667 ; 53.024,-2.667 53.48,-2.667 ; 53.024,-2.667 53.48,-2.667
3D body "HT3.96-LI.STEP": height 10.05, standoff -2.95, extent 49.416,-3.7 53.416,3.7
3D body "HT3.96-LI.STEP": height 10.05, standoff -2.95, extent 45.456,-3.7 49.456,3.7
3D body "HT3.96-LI.STEP": height 10.05, standoff -2.95, extent 53.376,-3.7 57.376,3.7
3D body "HT3.96-LI.STEP": height 10.05, standoff -2.95, extent 37.516,-3.7 41.516,3.7
3D body "HT3.96-LI.STEP": height 10.05, standoff -2.95, extent 33.556,-3.7 37.556,3.7
3D body "HT3.96-LI.STEP": height 10.05, standoff -2.95, extent 41.476,-3.7 45.476,3.7
3D body "HT3.96-LI.STEP": height 10.05, standoff -2.95, extent 25.636,-3.7 29.636,3.7
3D body "HT3.96-LI.STEP": height 10.05, standoff -2.95, extent 21.676,-3.7 25.676,3.7
3D body "HT3.96-LI.STEP": height 10.05, standoff -2.95, extent 29.596,-3.7 33.596,3.7
3D body "HT3.96-LI.STEP": height 10.05, standoff -2.95, extent 13.756,-3.7 17.756,3.7
3D body "HT3.96-LI.STEP": height 10.05, standoff -2.95, extent 9.796,-3.7 13.796,3.7
3D body "HT3.96-LI.STEP": height 10.05, standoff -2.95, extent 17.716,-3.7 21.716,3.7
3D body "HT3.96-LI.STEP": height 10.05, standoff -2.95, extent 1.876,-3.7 5.876,3.7
3D body "HT3.96-LI.STEP": height 10.05, standoff -2.95, extent -2.084,-3.7 1.916,3.7
3D body "HT3.96-LI.STEP": height 10.05, standoff -2.95, extent 5.836,-3.7 9.836,3.7

## HT3.96-15P-ORG [mm]
pads (15):
  rect 2.4x2.4 hole 1.3: 1(0,0)
  round 2.4 hole 1.3: 2(3.96,0) 3(7.92,0) 4(11.88,0) 5(15.84,0) 6(19.8,0) 7(23.76,0) 8(27.72,0) 9(31.68,0) 10(35.64,0) 11(39.6,0) 12(43.58,0) 13(47.54,0) 14(51.5,0) 15(55.46,0)
Top Overlay:
  lines w0.203: -1.98,-2.667 -1.524,-2.667 ccw(c0,-1.143) 1.524,-2.667 1.98,-2.667 2.436,-2.667 ccw(c3.96,-1.143) 5.484,-2.667 5.94,-2.667 6.396,-2.667 ccw(c7.92,-1.143) 9.444,-2.667 9.9,-2.667 10.356,-2.667 ccw(c11.88,-1.143) 13.404,-2.667 13.86,-2.667 14.316,-2.667 ccw(c15.84,-1.143) 17.364,-2.667 17.82,-2.667 18.276,-2.667 ccw(c19.8,-1.143) 21.324,-2.667 21.78,-2.667 22.236,-2.667 ccw(c23.76,-1.143) 25.284,-2.667 25.74,-2.667 26.196,-2.667 ccw(c27.72,-1.143) 29.244,-2.667 29.7,-2.667 30.156,-2.667 ccw(c31.68,-1.143) 33.204,-2.667 33.66,-2.667 34.116,-2.667 ccw(c35.64,-1.143) 37.164,-2.667 ; -1.98,2.794 1.905,2.794 ; 1.98,2.794 5.865,2.794 ; 5.94,2.794 9.825,2.794 ; 9.9,2.794 13.785,2.794 ; 13.86,2.794 17.745,2.794 ; 17.82,2.794 21.705,2.794 ; 21.78,2.794 25.665,2.794 ; 25.74,2.794 29.625,2.794 ; 29.7,2.794 33.585,2.794 ; 33.66,2.794 37.545,2.794 ; 37.62,2.794 41.505,2.794 ; 41.58,-3.7 37.62,-3.7 33.66,-3.7 29.7,-3.7 25.74,-3.7 21.78,-3.7 17.82,-3.7 13.86,-3.7 9.9,-3.7 5.94,-3.7 1.98,-3.7 -1.98,-3.7 -1.98,3.7 1.98,3.7 5.94,3.7 9.9,3.7 13.86,3.7 17.82,3.7 21.78,3.7 25.74,3.7 29.7,3.7 33.66,3.7 37.62,3.7 41.58,3.7 ; 41.58,-2.667 41.124,-2.667 cw(c39.6,-1.143) 38.076,-2.667 37.62,-2.667 ; 41.6,-3.7 45.56,-3.7 49.52,-3.7 53.48,-3.7 57.44,-3.7 57.44,3.7 53.48,3.7 49.52,3.7 45.56,3.7 41.6,3.7 ; 41.6,2.794 45.485,2.794 ; 45.56,2.794 49.445,2.794 ; 49.52,2.794 53.405,2.794 ; 53.48,2.794 57.365,2.794 ; 57.44,-2.667 56.984,-2.667 cw(c55.46,-1.143) 53.936,-2.667 53.48,-2.667 ; 37.164,-2.667 37.62,-2.667 ; 37.164,-2.667 37.62,-2.667 ; 41.6,-2.667 41.144,-2.667 41.6,-2.667 ; 41.6,-2.667 42.056,-2.667 ccw(c43.58,-1.143) 45.104,-2.667 ; 45.104,-2.667 45.56,-2.667 ; 45.104,-2.667 45.56,-2.667 ; 45.104,-2.667 45.56,-2.667 ; 45.56,-2.667 46.016,-2.667 ccw(c47.54,-1.143) 49.064,-2.667 ; 49.064,-2.667 49.52,-2.667 ; 49.064,-2.667 49.52,-2.667 ; 49.064,-2.667 49.52,-2.667 ; 49.52,-2.667 49.976,-2.667 ccw(c51.5,-1.143) 53.024,-2.667 ; 53.024,-2.667 53.48,-2.667 ; 53.024,-2.667 53.48,-2.667 ; 53.024,-2.667 53.48,-2.667
3D body "HT3.96-LI-ORG.STEP": height 10.05, standoff -2.95, extent 5.9,-3.7 9.9,3.7
3D body "HT3.96-LI-ORG.STEP": height 10.05, standoff -2.95, extent -2.02,-3.7 1.98,3.7
3D body "HT3.96-LI-ORG.STEP": height 10.05, standoff -2.95, extent 1.94,-3.7 5.94,3.7
3D body "HT3.96-LI-ORG.STEP": height 10.05, standoff -2.95, extent 17.78,-3.7 21.78,3.7
3D body "HT3.96-LI-ORG.STEP": height 10.05, standoff -2.95, extent 9.86,-3.7 13.86,3.7
3D body "HT3.96-LI-ORG.STEP": height 10.05, standoff -2.95, extent 13.82,-3.7 17.82,3.7
3D body "HT3.96-LI-ORG.STEP": height 10.05, standoff -2.95, extent 29.66,-3.7 33.66,3.7
3D body "HT3.96-LI-ORG.STEP": height 10.05, standoff -2.95, extent 21.74,-3.7 25.74,3.7
3D body "HT3.96-LI-ORG.STEP": height 10.05, standoff -2.95, extent 25.7,-3.7 29.7,3.7
3D body "HT3.96-LI-ORG.STEP": height 10.05, standoff -2.95, extent 41.54,-3.7 45.54,3.7
3D body "HT3.96-LI-ORG.STEP": height 10.05, standoff -2.95, extent 33.62,-3.7 37.62,3.7
3D body "HT3.96-LI-ORG.STEP": height 10.05, standoff -2.95, extent 37.58,-3.7 41.58,3.7
3D body "HT3.96-LI-ORG.STEP": height 10.05, standoff -2.95, extent 53.44,-3.7 57.44,3.7
3D body "HT3.96-LI-ORG.STEP": height 10.05, standoff -2.95, extent 45.52,-3.7 49.52,3.7
3D body "HT3.96-LI-ORG.STEP": height 10.05, standoff -2.95, extent 49.48,-3.7 53.48,3.7

## HT3.96W-2P [mm]
pads (2):
  rect 2.4x2.4 hole 1.3: 1(0,0)
  round 2.4 hole 1.3: 2(3.96,0)
Top Overlay:
  lines w0.203: 0.02,-8.255 0.02,-2.54 ; 3.98,-8.255 3.98,-2.54 ; -1.96,-9.5 -1.96,1.98 2,1.98 5.96,1.98 5.96,-9.5 2,-9.5 -1.96,-9.5 ; -0.107,-8.255 -0.107,-2.54 0.147,-2.54 0.147,-8.255 -0.107,-8.255 ; 3.853,-8.255 4.107,-8.255 4.107,-2.54 3.853,-2.54 3.853,-8.255
3D body "HT3.96-WI.STEP": height 7.45, standoff -3.2, extent -2.032,-9.492 1.968,0.508
3D body "HT3.96-WI.STEP": height 7.45, standoff -3.2, extent 1.928,-9.492 5.928,0.508

## HT3.96W-2P-ORG [mm]
pads (2):
  rect 2.4x2.4 hole 1.3: 1(0,0)
  round 2.4 hole 1.3: 2(3.96,0)
Top Overlay:
  lines w0.203: 0.02,-8.255 0.02,-2.54 ; 3.98,-8.255 3.98,-2.54 ; -1.96,-9.5 2,-9.5 5.96,-9.5 5.96,1.98 2,1.98 -1.96,1.98 -1.96,-9.5 ; -0.107,-8.255 0.147,-8.255 0.147,-2.54 -0.107,-2.54 -0.107,-8.255 ; 3.853,-8.255 3.853,-2.54 4.107,-2.54 4.107,-8.255 3.853,-8.255
3D body "HT3.96-WI-ORG.STEP": height 7.45, standoff -3.2, extent 1.962,-9.572 5.962,0.428
3D body "HT3.96-WI-ORG.STEP": height 7.45, standoff -3.2, extent -1.998,-9.572 2.002,0.428

## HT3.96W-3P [mm]
pads (3):
  rect 2.4x2.4 hole 1.3: 1(0,0)
  round 2.4 hole 1.3: 2(3.96,0) 3(7.92,0)
Top Overlay:
  lines w0.203: 0.02,-8.255 0.02,-2.54 ; 3.98,-8.255 3.98,-2.54 ; 7.94,-8.255 7.94,-2.54 ; -1.96,-9.5 -1.96,1.98 2,1.98 5.96,1.98 9.92,1.98 9.92,-9.5 5.96,-9.5 2,-9.5 -1.96,-9.5 ; -0.107,-8.255 -0.107,-2.54 0.147,-2.54 0.147,-8.255 -0.107,-8.255 ; 3.853,-8.255 4.107,-8.255 4.107,-2.54 3.853,-2.54 3.853,-8.255 ; 7.813,-8.255 8.067,-8.255 8.067,-2.54 7.813,-2.54 7.813,-8.255
3D body "HT3.96-WI.STEP": height 7.45, standoff -3.2, extent 5.888,-9.492 9.888,0.508
3D body "HT3.96-WI.STEP": height 7.45, standoff -3.2, extent -2.032,-9.492 1.968,0.508
3D body "HT3.96-WI.STEP": height 7.45, standoff -3.2, extent 1.928,-9.492 5.928,0.508

## HT3.96W-3P-ORG [mm]
pads (3):
  rect 2.4x2.4 hole 1.3: 1(0,0)
  round 2.4 hole 1.3: 2(3.96,0) 3(7.92,0)
Top Overlay:
  lines w0.203: 0.02,-8.255 0.02,-2.54 ; 3.98,-8.255 3.98,-2.54 ; 7.94,-8.255 7.94,-2.54 ; -1.96,-9.5 2,-9.5 5.96,-9.5 9.92,-9.5 9.92,1.98 5.96,1.98 2,1.98 -1.96,1.98 -1.96,-9.5 ; -0.107,-8.255 0.147,-8.255 0.147,-2.54 -0.107,-2.54 -0.107,-8.255 ; 3.853,-8.255 3.853,-2.54 4.107,-2.54 4.107,-8.255 3.853,-8.255 ; 7.813,-8.255 7.813,-2.54 8.067,-2.54 8.067,-8.255 7.813,-8.255
3D body "HT3.96-WI-ORG.STEP": height 7.45, standoff -3.2, extent 5.922,-9.572 9.922,0.428
3D body "HT3.96-WI-ORG.STEP": height 7.45, standoff -3.2, extent 1.962,-9.572 5.962,0.428
3D body "HT3.96-WI-ORG.STEP": height 7.45, standoff -3.2, extent -1.998,-9.572 2.002,0.428